# EAGLE library part VL53L1X (library Eric Navarrete Custom Parts Feb 2019)
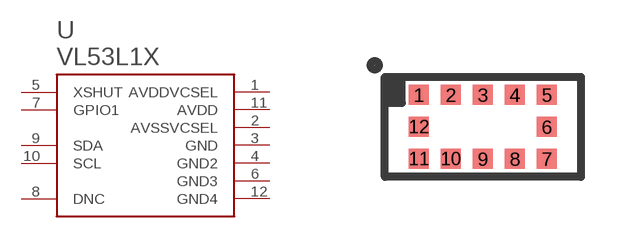
[diagram p30: symbol with the pads of VL53L1X; footprint VL53L1X]

Designator prefix U

## VL53L1X  [VL53L1X]
1  AVDDVCSEL  pwr
2  AVSSVCSEL  in
3  GND
4  GND2  in
5  XSHUT  out
6  GND3  pwr
7  GPIO1  in
8  DNC  pwr
9  SDA  pwr
10  SCL  pwr
11  AVDD  pwr
12  GND4  pwr

## Footprint VL53L1X (pad centres in mm)
smd 0.5 x 0.5: 1 -1.6,0.8; 2 -0.8,0.8; 3 0,0.8; 4 0.8,0.8; 5 1.6,0.8; 6 1.6,0; 7 1.6,-0.8; 8 0.8,-0.8; 9 0,-0.8; 10 -0.8,-0.8; 11 -1.6,-0.8; 12 -1.6,0